# Altium schematic symbol library SSW-104-01-T-S.SchLib: 1 symbol
Pins are listed as number, name and electrical type; pins without a type are passive.

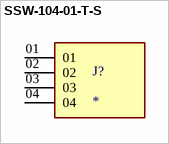
[diagram p0: symbol SSW-104-01-T-S]

## SSW-104-01-T-S
designator J?
SSW - Samtec 2.54mm Single Row Straight Socket Strip 8.5 Profile - Fast Stock; MF: Samtec Inc.; MP: SSW-104-01-T-S; Value: *; Purchase-URL: https://pricing.snapeda.com/search/part/SSW-104-01-T-S/?ref=eda; Check_prices: https://www.snapeda.com/parts/SSW-104-01-T-S/Samtec%20Inc./view-part/616313/?ref=eda; Price: None; SnapEDA_Link: https://www.snapeda.com/parts/SSW-104-01-T-S/Samtec%20Inc./view-part/616313/?ref=snap; Availability: Unavailable; Package: None
footprint SAMTEC_SSW-104-01-T-S
pins: 01, 02, 03, 04